# Altium footprint library Molex Pico SPOX.PcbLib: 8 footprints
Each footprint in its own frame and in the unit in brackets; x right, y up, seen from the top. Pads: shape width x height; smd on the part's side, far side on the other; paste and mask are expansions set on the pad; w line width, h text height; cw(c..) or ccw(c..) is an arc to the next point about the centre after c.
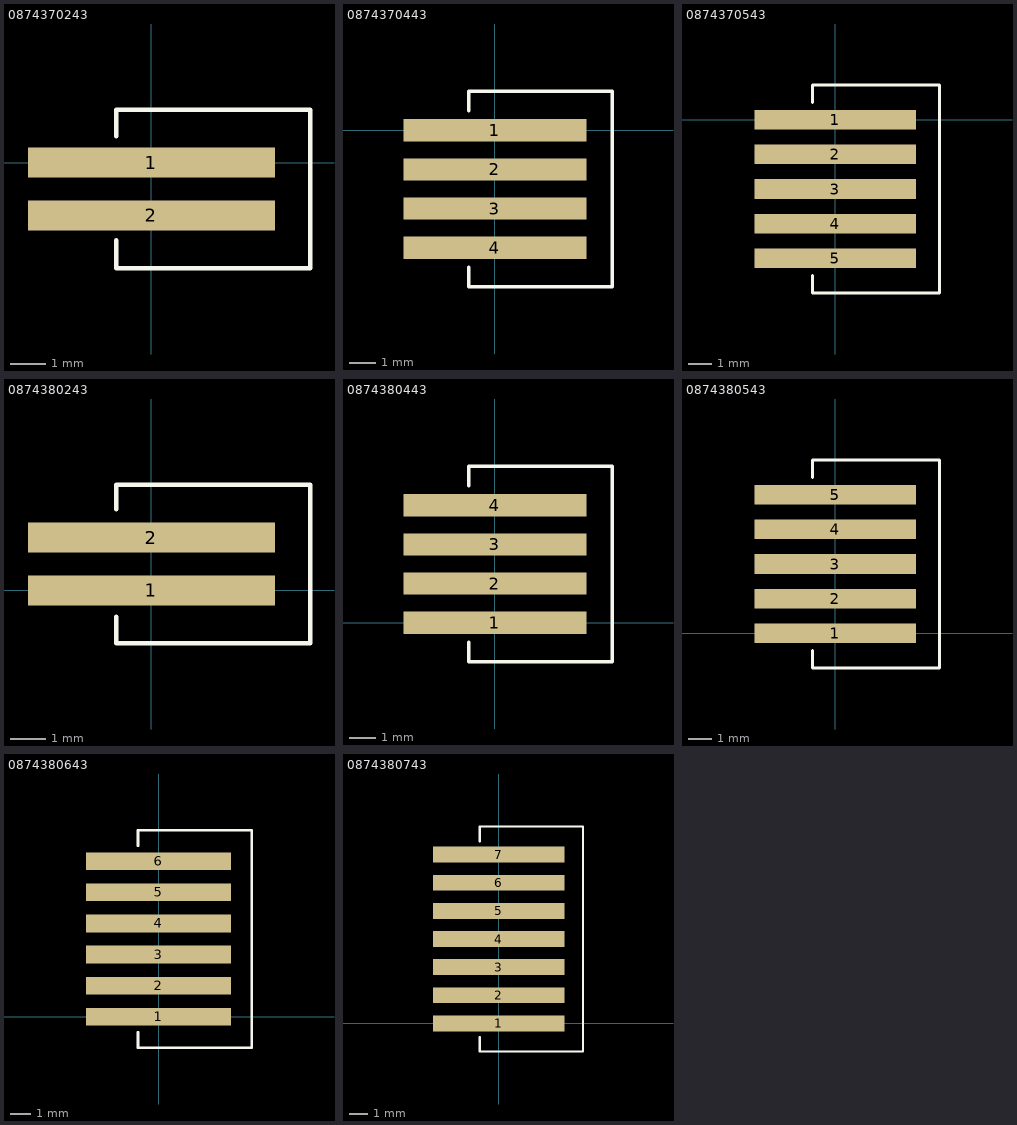
[diagram p0: the footprints below, top view; thin cyan lines are the x and y axes]

## 0874370243 [mm]
pads (2):
  rect 7x0.85 smd: 1(0,0) 2(0,-1.5)
Top Overlay:
  lines w0.127: -1,-2.2 -1,-3 4.5,-3 4.5,1.5 -1,1.5 -1,0.75
3D body "874370243.stp": height 5.76, standoff 0.01, extent -2,-2.8 4,1.5

## 0874370443 [mm]
pads (4):
  rect 7x0.85 smd: 1(0,0) 2(0,-1.5) 3(0,-3) 4(0,-4.5)
Top Overlay:
  lines w0.127: -1,-5.25 -1,-6 4.5,-6 4.5,1.5 -1,1.5 -1,0.75
3D body "874370443.stp": height 5.76, standoff 0.01, extent -2,-5.925 4,1.375

## 0874370543 [mm]
pads (5):
  rect 7x0.85 smd: 1(0,0) 2(0,-1.5) 3(0,-3) 4(0,-4.5) 5(0,-6)
Top Overlay:
  lines w0.127: -1,-6.75 -1,-7.5 4.5,-7.5 4.5,1.5 -1,1.5 -1,0.75
3D body "874370543.stp": height 5.76, standoff 0.01, extent -2,-7.4 4,1.4

## 0874380243 [mm]
pads (2):
  rect 7x0.85 smd: 1(0,0) 2(0,1.5)
Top Overlay:
  lines w0.127: -1,-0.75 -1,-1.5 4.5,-1.5 4.5,3 -1,3 -1,2.3
3D body "874380243.stp": height 4.53, standoff 0.01, extent -3.375,-1.425 4.375,2.875

## 0874380443 [mm]
pads (4):
  rect 7x0.85 smd: 1(0,0) 2(0,1.5) 3(0,3) 4(0,4.5)
Top Overlay:
  lines w0.127: -1,-0.75 -1,-1.5 4.5,-1.5 4.5,6 -1,6 -1,5.25
3D body "874380443.stp": height 4.53, standoff 0.01, extent -3.375,-1.4 4.375,5.9

## 0874380543 [mm]
pads (5):
  rect 7x0.85 smd: 1(0,0) 2(0,1.5) 3(0,3) 4(0,4.5) 5(0,6)
Top Overlay:
  lines w0.127: -1,-0.75 -1,-1.5 4.5,-1.5 4.5,7.5 -1,7.5 -1,6.75
3D body "874380543.stp": height 4.53, standoff 0.01, extent -3.375,-1.425 4.375,7.375

## 0874380643 [mm]
pads (6):
  rect 7x0.85 smd: 1(0,0) 2(0,1.5) 3(0,3) 4(0,4.5) 5(0,6) 6(0,7.5)
Top Overlay:
  lines w0.127: -1,-0.75 -1,-1.5 4.5,-1.5 4.5,9 -1,9 -1,8.25
3D body "874380643.stp": height 4.53, standoff 0.01, extent -3.375,-1.425 4.375,8.875

## 0874380743 [mm]
pads (7):
  rect 7x0.85 smd: 1(0,0) 2(0,1.5) 3(0,3) 4(0,4.5) 5(0,6) 6(0,7.5) 7(0,9)
Top Overlay:
  lines w0.127: -1,-0.75 -1,-1.5 4.5,-1.5 4.5,10.5 -1,10.5 -1,9.7
3D body "874380743.stp": height 4.53, standoff 0.01, extent -3.375,-1.4 4.375,10.4